# EAGLE library part LCD_TFT_320QVT (library TFT_320QVT)
3.2" 320x240 TFT Module Display Touch Panel with PCB 262K Colors IC SSD1289
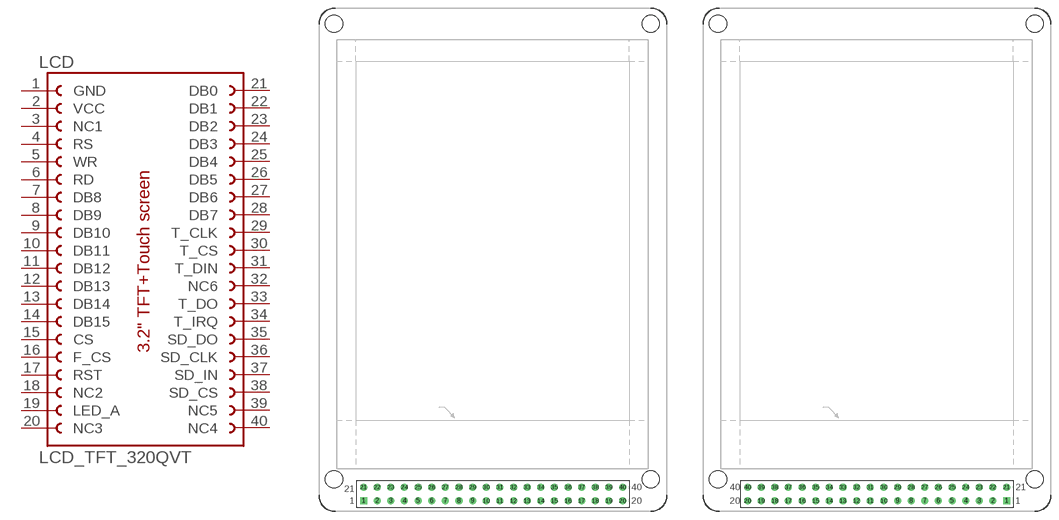
[diagram p0: symbol with the pads of LCD_TFT_320QVT; footprints LCD_TFT_320QVT, LCD_TFT_320QVT_MIRROR]

Designator prefix LCD

## LCD_TFT_320QVT  [LCD_TFT_320QVT]
1  GND  pas
2  VCC  pas
3  NC1  nc
4  RS  in
5  WR  in
6  RD  in
7  DB8
8  DB9
9  DB10
10  DB11
11  DB12
12  DB13
13  DB14
14  DB15
15  CS  in
16  F_CS  in
17  RST  in
18  NC2  nc
19  LED_A  in
20  NC3  nc
21  DB0
22  DB1
23  DB2
24  DB3
25  DB4
26  DB5
27  DB6
28  DB7
29  T_CLK  in
30  T_CS  in
31  T_DIN  in
32  NC6  nc
33  T_DO  out
34  T_IRQ  out
35  SD_DO  out
36  SD_CLK  in
37  SD_IN  in
38  SD_CS  in
39  NC5  nc
40  NC4  nc

## LCD_TFT_320QVTMIRROR  [LCD_TFT_320QVT_MIRROR]
Pads as for LCD_TFT_320QVT

## LCD_TFT_320QVT9341  [LCD_TFT_9341_MIRROR]
Pads as for LCD_TFT_320QVT

## Footprint LCD_TFT_320QVT (pad centres in mm)
drill 0.8 square: 1 0,0
drill 0.8: 2 2.54,0; 3 5.08,0; 4 7.62,0; 5 10.16,0; 6 12.7,0; 7 15.24,0; 8 17.78,0; 9 20.32,0; 10 22.86,0; 11 25.4,0; 12 27.94,0; 13 30.48,0; 14 33.02,0; 15 35.56,0; 16 38.1,0; 17 40.64,0; 18 43.18,0; 19 45.72,0; 20 48.26,0; 21 0,2.54; 22 2.54,2.54; 23 5.08,2.54; 24 7.62,2.54; 25 10.16,2.54; 26 12.7,2.54; 27 15.24,2.54; 28 17.78,2.54; 29 20.32,2.54; 30 22.86,2.54; 31 25.4,2.54; 32 27.94,2.54; 33 30.48,2.54; 34 33.02,2.54; 35 35.56,2.54; 36 38.1,2.54; 37 40.64,2.54; 38 43.18,2.54; 39 45.72,2.54; 40 48.26,2.54
hole 3.2 at -5.5,4
hole 3.2 at 53.5,4
hole 3.2 at -5.5,89
hole 3.2 at 53.5,89

## Footprint LCD_TFT_320QVT_MIRROR (pad centres in mm)
drill 0.8 square: 1 48.26,0
drill 0.8: 2 45.72,0; 3 43.18,0; 4 40.64,0; 5 38.1,0; 6 35.56,0; 7 33.02,0; 8 30.48,0; 9 27.94,0; 10 25.4,0; 11 22.86,0; 12 20.32,0; 13 17.78,0; 14 15.24,0; 15 12.7,0; 16 10.16,0; 17 7.62,0; 18 5.08,0; 19 2.54,0; 20 0,0; 21 48.26,2.54; 22 45.72,2.54; 23 43.18,2.54; 24 40.64,2.54; 25 38.1,2.54; 26 35.56,2.54; 27 33.02,2.54; 28 30.48,2.54; 29 27.94,2.54; 30 25.4,2.54; 31 22.86,2.54; 32 20.32,2.54; 33 17.78,2.54; 34 15.24,2.54; 35 12.7,2.54; 36 10.16,2.54; 37 7.62,2.54; 38 5.08,2.54; 39 2.54,2.54; 40 0,2.54
hole 3.2 at -5.5,4
hole 3.2 at 53.5,4
hole 3.2 at -5.5,89
hole 3.2 at 53.5,89

## Footprint LCD_TFT_9341_MIRROR (pad centres in mm)
drill 0.8 square: 1 48.26,0
drill 0.8: 2 45.72,0; 3 43.18,0; 4 40.64,0; 5 38.1,0; 6 35.56,0; 7 33.02,0; 8 30.48,0; 9 27.94,0; 10 25.4,0; 11 22.86,0; 12 20.32,0; 13 17.78,0; 14 15.24,0; 15 12.7,0; 16 10.16,0; 17 7.62,0; 18 5.08,0; 19 2.54,0; 20 0,0; 21 48.26,2.54; 22 45.72,2.54; 23 43.18,2.54; 24 40.64,2.54; 25 38.1,2.54; 26 35.56,2.54; 27 33.02,2.54; 28 30.48,2.54; 29 27.94,2.54; 30 25.4,2.54; 31 22.86,2.54; 32 20.32,2.54; 33 17.78,2.54; 34 15.24,2.54; 35 12.7,2.54; 36 10.16,2.54; 37 7.62,2.54; 38 5.08,2.54; 39 2.54,2.54; 40 0,2.54
hole 3.2 at -5.5,4
hole 3.2 at 53.5,4
hole 3.2 at -5.5,89.5
hole 3.2 at 53.5,89.5